# Altium footprint library SOD123_ONSEMI.PcbLib: 1 footprints
Each footprint in its own frame and in the unit in brackets; x right, y up, seen from the top. Pads: shape width x height; smd on the part's side, far side on the other; paste and mask are expansions set on the pad; w line width, h text height; cw(c..) or ccw(c..) is an arc to the next point about the centre after c.
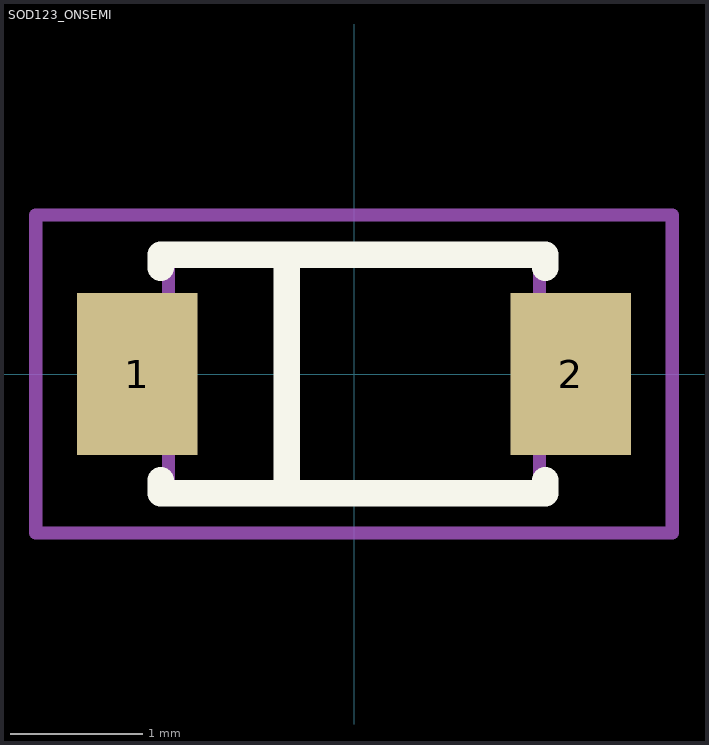
[diagram p0: the footprint, top view; thin cyan lines are the x and y axes]

## SOD123_ONSEMI [mm]
pads (2):
  rect 0.91x1.22 smd: 1(-1.635,0) 2(1.635,0)
Top Overlay:
  lines w0.2: -1.458,-0.8 -1.458,-0.899 1.442,-0.899 1.442,-0.8 ; -1.458,0.8 -1.458,0.901 1.442,0.901 1.442,0.8 ; -0.508,-0.899 -0.508,0.901
Mechanical 13:
  lines w0.1: -1.4,-0.9 1.4,-0.9 1.4,0.9 -1.4,0.9 -1.4,-0.9
Mechanical 15:
  lines w0.1: -2.4,-1.2 2.4,-1.2 2.4,1.2 -2.4,1.2 -2.4,-1.2
3D body: height 1.18, standoff -0.05, extent -1.93,-0.8 1.93,0.8